# Altium schematic symbol library MCU_Modules.SchLib: 1 symbol
Pins are listed as number, name and electrical type; pins without a type are passive.

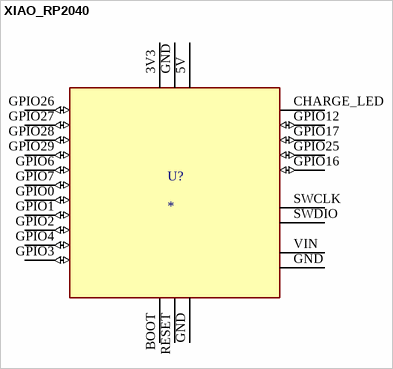
[diagram p0: symbol XIAO_RP2040]

## XIAO_RP2040
designator U?
footprint XIAO_RP2040 (Seed Studio Microcontroller, Mini and compact using the RP2040 Chip)
pins: 3V3 3V3_OUT (power), 5V VBUS (power), BOOT, CHARGE_LED VCC_3V3 (power), GND, GND, GND, GPIO0 D6 (io), GPIO1 D7 (io), GPIO2 D8 (io), GPIO3 D9 (io), GPIO4 D10 (io), GPIO6 D4 (io), GPIO7 D5 (io), GPIO12 RGB_LED (io), GPIO16 USER_LED_B (io), GPIO17 USER_LED_R (io), GPIO25 USER_LED_B (io), GPIO26 D0 (io), GPIO27 D1 (io), GPIO28 D2 (io), GPIO29 D3 (io), RESET, SWCLK, SWDIO, VIN